# Altium schematic symbol library CYW55913IUBGTXTMA1.SchLib: 1 symbol
Pins are listed as number, name and electrical type; pins without a type are passive.

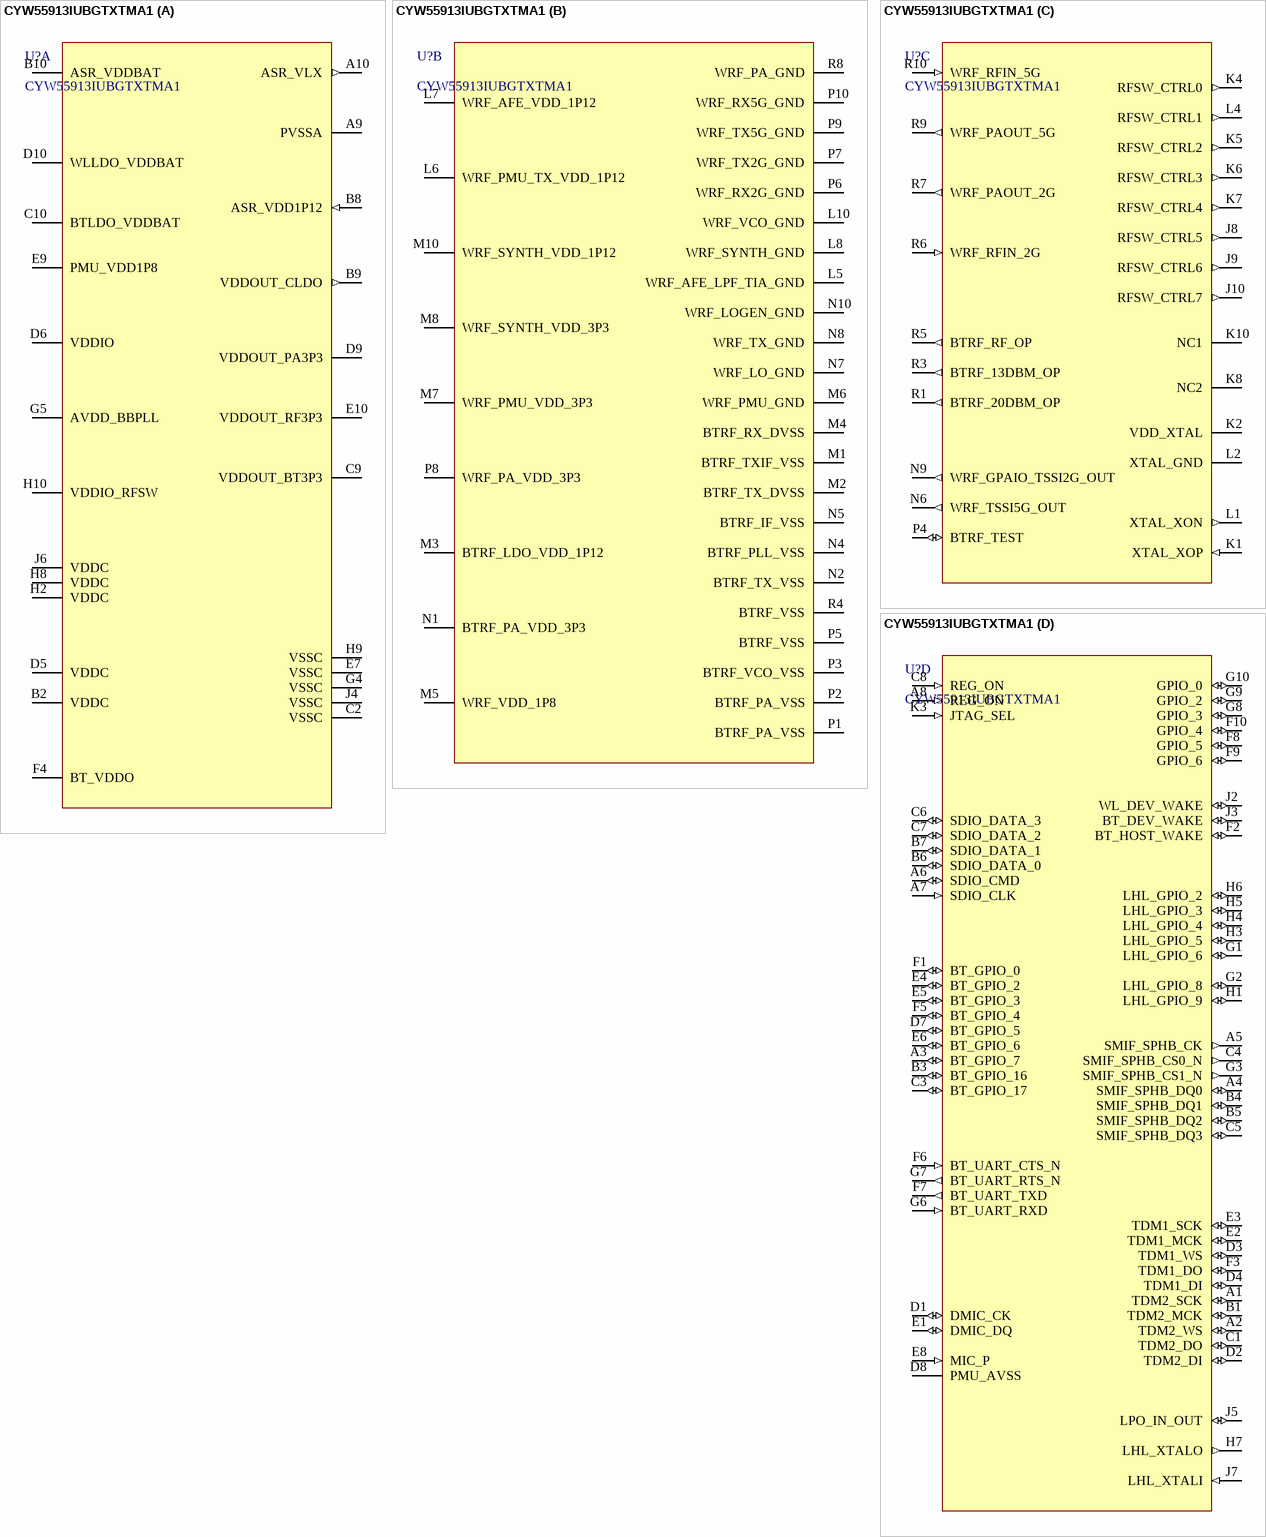
[diagram p0: symbol CYW55913IUBGTXTMA1]

## CYW55913IUBGTXTMA1
designator U?
IC RF TxRx + MCU 802.15.4 Bluetooth v5.4 2.4GHz ~ 6GHz 143-BGA, WLBGA
footprint BGA143C35P10X15_357X532X45 (BGA, 143-Leads, Body 3,57x5,32mmx0,45mm, Pitch 0,35mm)
part A pins: A9 PVSSA (power), A10 ASR_VLX (out), B2 VDDC (power), B8 ASR_VDD1P12 (in), B9 VDDOUT_CLDO (out), B10 ASR_VDDBAT (power), C2 VSSC (power), C9 VDDOUT_BT3P3 (power), C10 BTLDO_VDDBAT (power), D5 VDDC (power), D6 VDDIO (power), D9 VDDOUT_PA3P3 (power), D10 WLLDO_VDDBAT (power), E7 VSSC (power), E9 PMU_VDD1P8 (power), E10 VDDOUT_RF3P3 (power), F4 BT_VDDO (power), G4 VSSC (power), G5 AVDD_BBPLL (power), H2 VDDC (power), H8 VDDC (power), H9 VSSC (power), H10 VDDIO_RFSW (power), J4 VSSC (power), J6 VDDC (power)
part B pins: L5 WRF_AFE_LPF_TIA_GND (power), L6 WRF_PMU_TX_VDD_1P12 (power), L7 WRF_AFE_VDD_1P12 (power), L8 WRF_SYNTH_GND (power), L10 WRF_VCO_GND (power), M1 BTRF_TXIF_VSS (power), M2 BTRF_TX_DVSS (power), M3 BTRF_LDO_VDD_1P12 (power), M4 BTRF_RX_DVSS (power), M5 WRF_VDD_1P8 (power), M6 WRF_PMU_GND (power), M7 WRF_PMU_VDD_3P3 (power), M8 WRF_SYNTH_VDD_3P3 (power), M10 WRF_SYNTH_VDD_1P12 (power), N1 BTRF_PA_VDD_3P3 (power), N2 BTRF_TX_VSS (power), N4 BTRF_PLL_VSS (power), N5 BTRF_IF_VSS (power), N7 WRF_LO_GND (power), N8 WRF_TX_GND (power), N10 WRF_LOGEN_GND (power), P1 BTRF_PA_VSS (power), P2 BTRF_PA_VSS (power), P3 BTRF_VCO_VSS (power), P5 BTRF_VSS (power), P6 WRF_RX2G_GND (power), P7 WRF_TX2G_GND (power), P8 WRF_PA_VDD_3P3 (power), P9 WRF_TX5G_GND (power), P10 WRF_RX5G_GND (power), R4 BTRF_VSS (power), R8 WRF_PA_GND (power)
part C pins: J8 RFSW_CTRL5 (out), J9 RFSW_CTRL6 (out), J10 RFSW_CTRL7 (out), K1 XTAL_XOP (in), K2 VDD_XTAL (power), K4 RFSW_CTRL0 (out), K5 RFSW_CTRL2 (out), K6 RFSW_CTRL3 (out), K7 RFSW_CTRL4 (out), K8 NC2, K10 NC1, L1 XTAL_XON (out), L2 XTAL_GND (power), L4 RFSW_CTRL1 (out), N6 WRF_TSSI5G_OUT (out), N9 WRF_GPAIO_TSSI2G_OUT (out), P4 BTRF_TEST (io), R1 BTRF_20DBM_OP (out), R3 BTRF_13DBM_OP (out), R5 BTRF_RF_OP (out), R6 WRF_RFIN_2G (in), R7 WRF_PAOUT_2G (out), R9 WRF_PAOUT_5G (out), R10 WRF_RFIN_5G (in)
part D pins: A1 TDM2_SCK (io), A2 TDM2_WS (io), A3 BT_GPIO_7 (io), A4 SMIF_SPHB_DQ0 (io), A5 SMIF_SPHB_CK (out), A6 SDIO_CMD (io), A7 SDIO_CLK (in), A8 REG_ON (in), B1 TDM2_MCK (io), B3 BT_GPIO_16 (io), B4 SMIF_SPHB_DQ1 (io), B5 SMIF_SPHB_DQ2 (io), B6 SDIO_DATA_0 (io), B7 SDIO_DATA_1 (io), C1 TDM2_DO (io), C3 BT_GPIO_17 (io), C4 SMIF_SPHB_CS0_N (out), C5 SMIF_SPHB_DQ3 (io), C6 SDIO_DATA_3 (io), C7 SDIO_DATA_2 (io), C8 REG_ON (in), D1 DMIC_CK (io), D2 TDM2_DI (io), D3 TDM1_WS (io), D4 TDM1_DI (io), D7 BT_GPIO_5 (io), D8 PMU_AVSS (power), E1 DMIC_DQ (io), E2 TDM1_MCK (io), E3 TDM1_SCK (io), E4 BT_GPIO_2 (io), E5 BT_GPIO_3 (io), E6 BT_GPIO_6 (io), E8 MIC_P (in), F1 BT_GPIO_0 (io), F2 BT_HOST_WAKE (io), F3 TDM1_DO (io), F5 BT_GPIO_4 (io), F6 BT_UART_CTS_N (in), F7 BT_UART_TXD (out), F8 GPIO_5 (io), F9 GPIO_6 (io), F10 GPIO_4 (io), G1 LHL_GPIO_6 (io), G2 LHL_GPIO_8 (io), G3 SMIF_SPHB_CS1_N (out), G6 BT_UART_RXD (in), G7 BT_UART_RTS_N (out), G8 GPIO_3 (io), G9 GPIO_2 (io), G10 GPIO_0 (io), H1 LHL_GPIO_9 (io), H3 LHL_GPIO_5 (io), H4 LHL_GPIO_4 (io), H5 LHL_GPIO_3 (io), H6 LHL_GPIO_2 (io), H7 LHL_XTALO (out), J2 WL_DEV_WAKE (io), J3 BT_DEV_WAKE (io), J5 LPO_IN_OUT (io), J7 LHL_XTALI (in), K3 JTAG_SEL (in)